# Altium footprint library TC33X-2-503E-Footprint-1.PcbLib: 1 footprints
Each footprint in its own frame and in the unit in brackets; x right, y up, seen from the top. Pads: shape width x height; smd on the part's side, far side on the other; paste and mask are expansions set on the pad; w line width, h text height; cw(c..) or ccw(c..) is an arc to the next point about the centre after c.
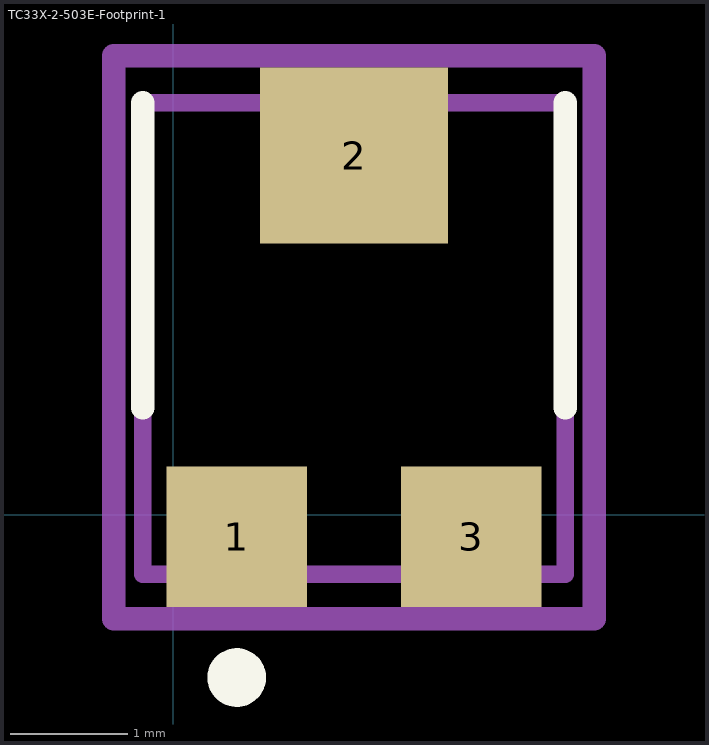
[diagram p0: the footprint, top view; thin cyan lines are the x and y axes]

## TC33X-2-503E-Footprint-1 [mm]
pads (3):
  rect 1.2x1.2 smd paste+0 mask+0: 1(0.542,-0.189) 3(2.542,-0.189)
  rect 1.6x1.5 smd paste+0 mask+0: 2(1.542,3.061)
Top Overlay:
  circle w0.25: c0.542,-1.389 r0.125
  lines w0.2: -0.258,0.911 -0.258,3.511 ; 3.342,0.911 3.342,3.511
Mechanical 2:
  lines w0.15: -0.258,-0.508 -0.258,3.511 3.342,3.511 3.342,-0.508 -0.258,-0.508
Mechanical 4:
  lines w0.2: -0.508,-0.889 -0.508,3.911 3.592,3.911 3.592,-0.889 -0.508,-0.889
3D body "TC-33X-2.stp": height 1.13, standoff -0.02, extent -0.28,-0.497 3.32,3.465